# Altium schematic symbol library G3MB202PDC5.SchLib: 1 symbol
Pins are listed as number, name and electrical type; pins without a type are passive.

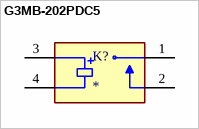
[diagram p0: symbol G3MB-202PDC5]

## G3MB-202PDC5
designator K?
MP: G3MB-202PDC5; MF: {'manufacturer': u'Omron Automation'}; Package: None; Value: *; Price: None; Availability: Unavailable
footprint RELAY_G3MB-202PDC5
pins: 1, 2, 3, 4